# Altium integrated library Load Drives.IntLib: 5 symbols
Pins are listed as number, name and electrical type; pins without a type are passive.

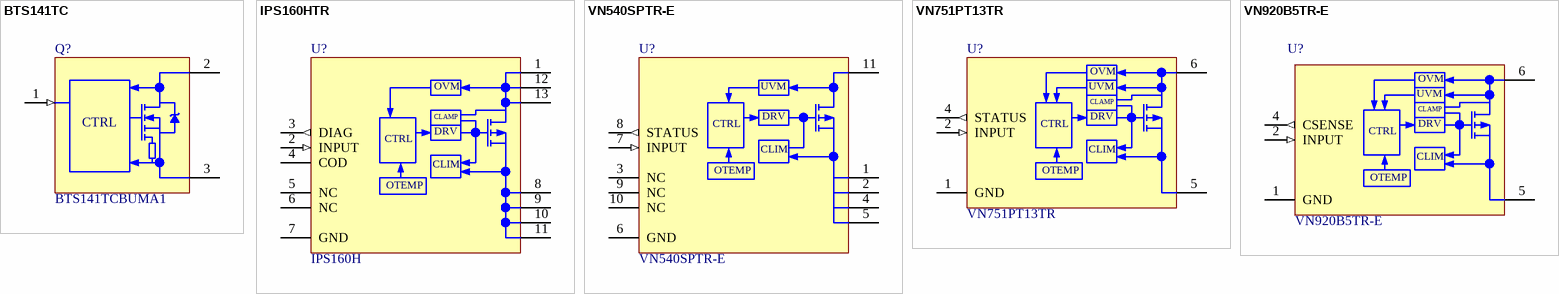
[diagram p0: symbols BTS141TC to VN920B5TR-E]

## BTS141TC
designator Q?, comment BTS141TCBUMA1
IC SWITCH SMART LOWSIDE TO263-3; Manufacturer 1: Infineon; Number of Channels: 1; Rds On Max: 30mR; Max Dual Supply Voltage: 60V; Max Power Dissipation: 149W; Max Output Current: 100A; Output Current: 12A; On-State Resistance: 25mR; Turn-On Delay Time: 100us; Turn-Off Delay Time: 170ns; Supplier 1: Digi-Key; Manufacturer Part Number 1: BTS141TC; RoHS: Yes; Category: MOSFETs; Stock 1: 4061; Pricing 1: 1=3,54000, 10=3,17700, 25=3,00360, 100=2,46980, 250=2,21612, 500=2,13600 (USD); Case/Package: TO-263-3; Number of Pins: 3; Min Operating Temperature: -40°C; Max Operating Temperature: 150°C; Packaging: Tape and Reel; Drain to Source Voltage (Vdss): 60V; Package Quantity: 1; Number of Outputs: 1; Output Current per Channel: 12A; Operating Supply Current: 12A; Voltage: 60V; Current: 12A; Power Dissipation: 149W; Length: 10mm; Height: 4.4mm; Width: 9.25mm; REACH SVHC: No SVHC; Halogen Free: Not Halogen Free; ComponentLink1URL: https://datasheet.ciiva.com/41458/001183533-da-01-en-ic-switch-smart-lo-bts141tc-to-263-3-inf-41458635.pdf?src-supplier=Conrad; ComponentLink1Description: https://datasheet.ciiva.com/41458/001183533-da-01-en-ic-switch-smart-lo-bts141tc-to-263-3-inf-41458635.pdf?src-supplier=Conrad; ComponentLink2URL: https://datasheet.ciiva.com/6607/infineon-bts141tc-ds-v01-00-en-6607413.pdf?src-supplier=Digi-Key; ComponentLink2Description: https://datasheet.ciiva.com/6607/infineon-bts141tc-ds-v01-00-en-6607413.pdf?src-supplier=Digi-Key; Value: BTS141TCBUMA1; Supplier Part Number 1: BTS141TCBUMA1CT-ND
footprint D2PAK_N (D2-PAK, 4-Leads, Body 8.8x10.4mm, Pitch 2.54mm, Lead Span 15.1mm, IPC Medium Density)
pins: 1 IN (in), 2 DRAIN, 3 SOURCE
text: CTRL

## IPS160HTR
designator U?, comment IPS160H
IC PWR SWITCH P-CHAN POWERSS012; Manufacturer 1: STMicroelectronics; Manufacturer Part Number 1: IPS160HTR; Interface: On/Off; Fault Protection: Over Temperature; Number of Outputs: 1; Output Configuration: High Side; Max Output Current: 2.5A; Supplier 1: Digi-Key; Stock 1: 2467; Pricing 1: 1=3,01000, 10=2,70600, 25=2,55840, 100=2,10350, 250=1,88744, 500=1,81920, 1000=1,51221 (USD); RoHS: No; Min Operating Temperature: -40°C; Max Operating Temperature: 125°C; Packaging: Tape and Reel; ComponentLink1URL: http://www.st.com/content/ccc/resource/technical/document/datasheet/ae/09/44/50/bc/5b/4d/e9/DM00164821.pdf/files/DM00164821.pdf/jcr:content/translations/en.DM00164821.pdf?src-supplier=Digi-Key; ComponentLink1Description: http://www.st.com/content/ccc/resource/technical/document/datasheet/ae/09/44/50/bc/5b/4d/e9/DM00164821.pdf/files/DM00164821.pdf/jcr:content/translations/en.DM00164821.pdf?src-supplier=Digi-Key; Value: IPS160H; Supplier Part Number 1: 497-19514-1-ND
footprint POWER-SSO12
pins: 1 VCC, 2 INPUT (in), 3 DIAG (out), 4 COD, 5 NC, 6 NC, 7 GND, 8 OUTPUT, 9 OUTPUT, 10 OUTPUT, 11 OUTPUT, 12 VCC, 13 VCC
text: OVM; CLAMP; DRV; CTRL; CLIM; OTEMP

## VN540SPTR-E
designator U?
IC RELAY SS SGL HISIDE POWERSO10; Manufacturer 1: STMicroelectronics; Rise Time: 60ns; Output Current: 2.8A; Max Supply Voltage: 36V; Min Supply Voltage: 10V; Nominal Supply Current: 3mA; Number of Outputs: 1; Max Output Current: 4A; Fall Time: 25ns; Operating Supply Current: 1mA; On-State Resistance: 50mR; Supplier 1: Digi-Key; Manufacturer Part Number 1: VN540SPTR-E; Stock 1: 881; Pricing 1: 1=7,60000, 10=6,86700, 25=6,54760, 100=5,42980, 250=4,95072 (USD); RoHS: Yes; Mount: Surface Mount; Number of Pins: 10; Min Operating Temperature: -25°C; Max Operating Temperature: 85°C; Packaging: Tape and Reel; Package Quantity: 1; Number of Drivers: 1; Output Current per Channel: 2.8A; Voltage: 36V; Current: 2.8A; Length: 7.6mm; Height: 3.55mm; Width: 9.5mm; Radiation Hardening: No; Lead Free: Lead Free; ComponentLink1URL: https://datasheet.ciiva.com/4897/cd00070971-113065-4897875.pdf?src-supplier=Mouser; ComponentLink1Description: https://datasheet.ciiva.com/4897/cd00070971-113065-4897875.pdf?src-supplier=Mouser; ComponentLink2URL: https://datasheet.ciiva.com/15109/getdatasheetpartid-392703-15109082.pdf?src-supplier=Verical; ComponentLink2Description: https://datasheet.ciiva.com/15109/getdatasheetpartid-392703-15109082.pdf?src-supplier=Verical; ComponentLink3URL: https://datasheet.ciiva.com/1955/cd00070971-1955452.pdf?src-supplier=Digi-Key; ComponentLink3Description: https://datasheet.ciiva.com/1955/cd00070971-1955452.pdf?src-supplier=Digi-Key; ComponentLink4URL: https://datasheet.ciiva.com/1955/cd00070971-1955453.pdf?src-supplier=Digi-Key; ComponentLink4Description: https://datasheet.ciiva.com/1955/cd00070971-1955453.pdf?src-supplier=Digi-Key; ComponentLink5URL: https://datasheet.ciiva.com/16365/cd00070971-16365133.pdf?src-supplier=Future+Electronics; ComponentLink5Description: https://datasheet.ciiva.com/16365/cd00070971-16365133.pdf?src-supplier=Future+Electronics; ComponentLink6URL: https://datasheet.ciiva.com/1955/cd00070971-1955454.pdf?src-supplier=Digi-Key; ComponentLink6Description: https://datasheet.ciiva.com/1955/cd00070971-1955454.pdf?src-supplier=Digi-Key; ComponentLink7URL: https://datasheet.ciiva.com/41457/001185480-da-01-en-ic-relay-ss-vn540sptr-e-powerso-10-stm-41457674.pdf?src-supplier=Conrad; ComponentLink7Description: https://datasheet.ciiva.com/41457/001185480-da-01-en-ic-relay-ss-vn540sptr-e-powerso-10-stm-41457674.pdf?src-supplier=Conrad; Value: VN540SPTR-E; Supplier Part Number 1: 497-5773-1-ND
footprint PowerSO-10 (SOP, 10-Leads, Body 9,45x9,40mm, Pitch 1,27mm, Thermal Pad 0,00x0,00mm, IPC Medium Density)
pins: 1 OUTPUT, 2 OUTPUT, 3 NC, 4 OUTPUT, 5 OUTPUT, 6 GND, 7 INPUT (in), 8 STATUS (out), 9 NC, 10 NC, 11 VCC
text: UVM; DRV; CTRL; CLIM; OTEMP

## VN751PT13TR
designator U?
IC PWR DRIVER N-CHANNEL 1:1 PPAK; Manufacturer 1: STMicroelectronics; Output Current: 2.5A; Fault Protection: Over Voltage,Over Temperature; Operating Supply Voltage: 24V; Number of Outputs: 1; Max Supply Voltage: 36V; Min Supply Voltage: 5.5V; Nominal Supply Current: 1.5mA; Interface: On/Off; Turn-Off Delay Time: 35000ns; Turn-On Delay Time: 12000ns; Max Supply Current: 1.8mA; Output Configuration: High Side; Supplier 1: Digi-Key; Manufacturer Part Number 1: VN751PT13TR; Stock 1: 5526; Pricing 1: 1=2,37000, 10=2,12500, 25=2,00520, 100=1,60400, 250=1,40352, 500=1,36340, 1000=1,08270 (USD); RoHS: Yes; Mount: Surface Mount; Case/Package: TO-252-5; Number of Pins: 4; Min Operating Temperature: -40°C; Max Operating Temperature: 150°C; Package Quantity: 1; Packaging: Tape and Reel; Max Output Current: 2.5A; Number of Drivers: 1; Voltage: 36V; Current: 2.5A; Length: 6.6mm; Height: 2.4mm; Width: 6.2mm; Radiation Hardening: No; Lead Free: Lead Free; ComponentLink1URL: https://datasheet.ciiva.com/15109/getdatasheetpartid-144905-15109959.pdf?src-supplier=Verical; ComponentLink1Description: https://datasheet.ciiva.com/15109/getdatasheetpartid-144905-15109959.pdf?src-supplier=Verical; ComponentLink2URL: https://datasheet.ciiva.com/1955/cd00094582-1955104.pdf?src-supplier=Digi-Key; ComponentLink2Description: https://datasheet.ciiva.com/1955/cd00094582-1955104.pdf?src-supplier=Digi-Key; ComponentLink3URL: https://datasheet.ciiva.com/1955/cd00094582-1955105.pdf?src-supplier=Digi-Key; ComponentLink3Description: https://datasheet.ciiva.com/1955/cd00094582-1955105.pdf?src-supplier=Digi-Key; ComponentLink4URL: https://datasheet.ciiva.com/3226/cd00094582-3226743.pdf?src-supplier=Avnet; ComponentLink4Description: https://datasheet.ciiva.com/3226/cd00094582-3226743.pdf?src-supplier=Avnet; ComponentLink5URL: https://datasheet.ciiva.com/16510/cd00094582-16510919.pdf?src-supplier=Future+Electronics; ComponentLink5Description: https://datasheet.ciiva.com/16510/cd00094582-16510919.pdf?src-supplier=Future+Electronics; ComponentLink6URL: https://datasheet.ciiva.com/4898/cd00094582-4898140.pdf?src-supplier=Mouser; ComponentLink6Description: https://datasheet.ciiva.com/4898/cd00094582-4898140.pdf?src-supplier=Mouser; ComponentLink7URL: https://datasheet.ciiva.com/1955/cd00094582-1955103.pdf?src-supplier=Digi-Key; ComponentLink7Description: https://datasheet.ciiva.com/1955/cd00094582-1955103.pdf?src-supplier=Digi-Key; Supplier Part Number 1: 497-6114-1-ND; Value: VN751PT13TR
footprint TO252-5-DPAK4L (D-PAK, 5-Pads, Body 6,15x6,61mm (max), IPC Medium Density)
pins: 1 GND, 2 INPUT (in), 4 STATUS (out), 5 OUTPUT, 6 VCC
text: OVM; UVM; CLAMP; DRV; CTRL; CLIM; OTEMP

## VN920B5TR-E
designator U?
IC PWR DRIVER N-CHAN 1:1 P2PAK; Manufacturer 1: STMicroelectronics; Operating Supply Voltage: 13V; Number of Drivers: 1; Turn-Off Delay Time: 50us; On-State Resistance: 16mR; Output Current per Channel: 45A; Power Dissipation: 96.1W; Max Supply Voltage: 36V; Min Supply Voltage: 5.5V; Nominal Supply Current: 5mA; Output Current: 30A; Current Rating: 75A; Supplier 1: Digi-Key; Manufacturer Part Number 1: VN920B5TR-E; Stock 1: 2154; Pricing 1: 1=2,99000, 10=2,68900, 25=2,54240, 100=2,09050, 250=1,87580, 500=1,80800 (USD); RoHS: Yes; Mount: Surface Mount; Number of Pins: 5; Min Operating Temperature: -40°C; Max Operating Temperature: 150°C; Turn-On Delay Time: 50us; Max Power Dissipation: 96.1W; Number of Outputs: 1; Packaging: Tape and Reel; Package Quantity: 1000; Radiation Hardening: No; Lead Free: Lead Free; ComponentLink1URL: https://datasheet.ciiva.com/12214/cd00276134-118075-12214161.pdf?src-supplier=Mouser; ComponentLink1Description: https://datasheet.ciiva.com/12214/cd00276134-118075-12214161.pdf?src-supplier=Mouser; ComponentLink2URL: https://datasheet.ciiva.com/1956/cd00044427-1956697.pdf?src-supplier=Digi-Key; ComponentLink2Description: https://datasheet.ciiva.com/1956/cd00044427-1956697.pdf?src-supplier=Digi-Key; ComponentLink3URL: https://datasheet.ciiva.com/26931/getdatasheetpartid-342735-26931239.pdf?src-supplier=Verical; ComponentLink3Description: https://datasheet.ciiva.com/26931/getdatasheetpartid-342735-26931239.pdf?src-supplier=Verical; Value: VN920B5TR-E; Supplier Part Number 1: 497-18891-1-ND
footprint P2PAK
pins: 1 GND, 2 INPUT (in), 4 CSENSE (out), 5 OUTPUT, 6 VCC
text: OVM; UVM; CLAMP; DRV; CTRL; CLIM; OTEMP